# EAGLE library part F9057TUBE (library F9057)
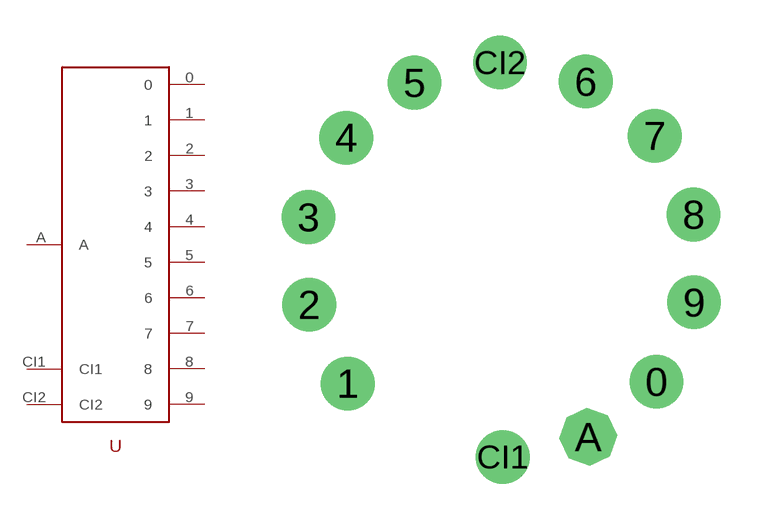
[diagram p0: symbol with the pads of F9057PIN; footprint F9057PIN]

Designator prefix -

## F9057TUBE  [F9057PIN]
0  0
1  1
2  2
3  3
4  4
5  5
6  6
7  7
8  8
9  9
A  A  pwr
CI1  CI1  nc
CI2  CI2  nc

## Footprint F9057PIN (pad centres in mm)
drill 1.5: 0 6.444,-5.171; 1 -6.493,-5.256; 2 -8.111,-1.95; 3 -8.134,1.73; 4 -6.559,5.056; 5 -3.696,7.37; 6 3.48,7.417; 7 6.373,5.142; 8 7.992,1.836; 9 8.018,-1.844; CI1 0,-8.33; CI2 -0.113,8.212
drill 1.5 octagon: A 3.582,-7.486